# EAGLE library part _BASE-MICREL-2951-REG_ (library KoalaBase)
Micrel adjustable 150mA LDO regulator 2950/2951 series
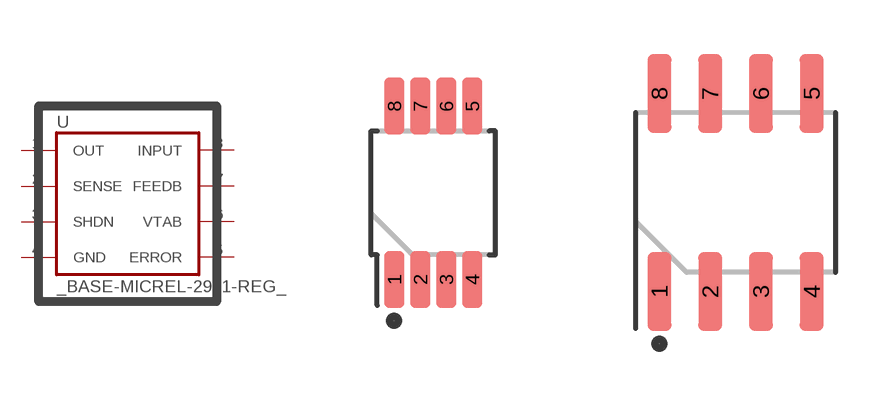
[diagram p5: symbol with the pads of SOP65P495X110-8L30_HS; footprints SOP65P495X110-8L30_HS, SOIC127P600X175-8L86_HS]

Designator prefix U

## _BASE-MICREL-2951-REG_SMD-MSOP8  [SOP65P495X110-8L30_HS]
1  OUT  pwr
2  SENSE  in
3  SHDN  in
4  GND  pwr
5  ERROR  out
6  VTAB  in
7  FEEDB  out
8  INPUT  pas

## _BASE-MICREL-2951-REG_SMD-SOIC8-JEDEC  [SOIC127P600X175-8L86_HS]
Pads as for SOP65P495X110-8L30_HS

## _BASE-MICREL-2951-REG_TH-DIP8  [DIP762W26P254L990H368Q8_HS]
Pads as for SOP65P495X110-8L30_HS

## Footprint SOP65P495X110-8L30_HS (pad centres in mm)
Small Outline Pkg (SOP), 0.65 mm pitch; 8 pin, 3.00 mm L X 3.00 mm W X 1.10 mm H body PCB Libraries Packages
smd 0.5 x 1.42: 1 -0.975,-2.165; 2 -0.325,-2.165; 3 0.325,-2.165; 4 0.975,-2.165; 5 0.975,2.165; 6 0.325,2.165; 7 -0.325,2.165; 8 -0.975,2.165

## Footprint SOIC127P600X175-8L86_HS (pad centres in mm)
Small Outline IC (SOIC), 1.27 mm pitch; 8 pin, 4.90 mm L X 3.90 mm W X 1.75 mm H body PCB Libraries Packages
smd 0.6 x 1.97: 1 -1.905,-2.475; 2 -0.635,-2.475; 3 0.635,-2.475; 4 1.905,-2.475; 5 1.905,2.475; 6 0.635,2.475; 7 -0.635,2.475; 8 -1.905,2.475

## Footprint DIP762W26P254L990H368Q8_HS (pad centres in mm)
DIP, 7.62 mm lead span, 2.54 mm pitch; 8 pin, 9.906 mm L X 6.604 mm W X 3.683 mm H body PCB Libraries Packages
drill 0.84 pad 1.26 square: 1 -3.81,-3.81
drill 0.84 pad 1.26: 2 -1.27,-3.81; 3 1.27,-3.81; 4 3.81,-3.81; 5 3.81,3.81; 6 1.27,3.81; 7 -1.27,3.81; 8 -3.81,3.81